# Altium schematic symbol library Audio_And_Signal_Transformers.SchLib: 2 symbols
Pins are listed as number, name and electrical type; pins without a type are passive.

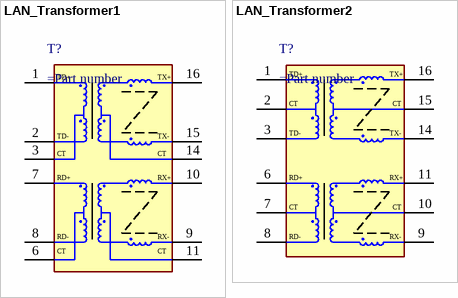
[diagram p0: symbols LAN_Transformer1 to LAN_Transformer2]

## LAN_Transformer1
designator T?
pins: 1 TD+, 2 TD-, 3 CT, 6 CT, 7 RD+, 8 RD-, 9 RX-, 10 RX+, 11 CT, 14 CT, 15 TX-, 16 TX+

## LAN_Transformer2
designator T?
pins: 1 TD+, 2 CT, 3 TD-, 6 RD+, 7 CT, 8 RD-, 9 RX-, 10 CT, 11 RX+, 14 TX-, 15 CT, 16 TX+